# Altium footprint library BGA1600NP65A40X40_2700X2700X214B35N.PcbLib: 1 footprints
Each footprint in its own frame and in the unit in brackets; x right, y up, seen from the top. Pads: shape width x height; smd on the part's side, far side on the other; paste and mask are expansions set on the pad; w line width, h text height; cw(c..) or ccw(c..) is an arc to the next point about the centre after c.
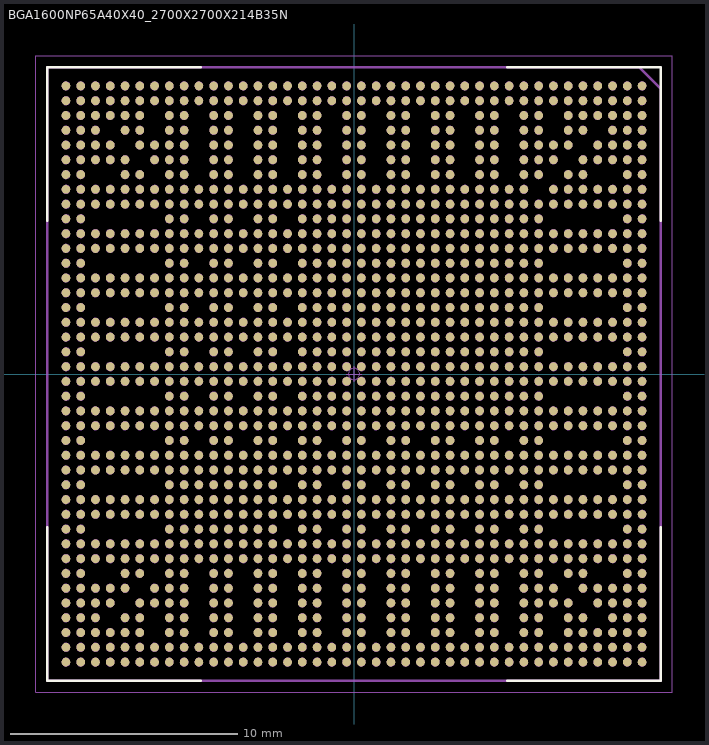
[diagram p0: the footprint, top view; thin cyan lines are the x and y axes]

## BGA1600NP65A40X40_2700X2700X214B35N [mm] "Ball Grid Array (BGA), 0.65 mm pitch, square; 1600 pin, 27.00 mm L X 27.00 mm W X 2.14 mm H Body"
height 2.14
pads (1372):
  round 0.385 smd paste-5 mask+0.025: A1(12.675,12.675) A2(12.025,12.675) A3(11.375,12.675) A4(10.725,12.675) A5(10.075,12.675) A6(9.425,12.675) A7(8.775,12.675) A8(8.125,12.675) A9(7.475,12.675) A10(6.825,12.675) A11(6.175,12.675) A12(5.525,12.675) A13(4.875,12.675) A14(4.225,12.675) A15(3.575,12.675) A16(2.925,12.675) A17(2.275,12.675) A18(1.625,12.675) A19(0.975,12.675) A20(0.325,12.675) A21(-0.325,12.675) A22(-0.975,12.675) A23(-1.625,12.675) A24(-2.275,12.675) A25(-2.925,12.675) A26(-3.575,12.675) A27(-4.225,12.675) A28(-4.875,12.675) A29(-5.525,12.675) A30(-6.175,12.675) A31(-6.825,12.675) A32(-7.475,12.675) A33(-8.125,12.675) A34(-8.775,12.675) A35(-9.425,12.675) A36(-10.075,12.675) A37(-10.725,12.675) A38(-11.375,12.675) A39(-12.025,12.675) A40(-12.675,12.675) AA1(12.675,-0.325) AA2(12.025,-0.325) AA3(11.375,-0.325) AA4(10.725,-0.325) AA5(10.075,-0.325) AA6(9.425,-0.325) AA7(8.775,-0.325) AA8(8.125,-0.325) AA9(7.475,-0.325) AA10(6.825,-0.325) AA11(6.175,-0.325) AA12(5.525,-0.325) AA13(4.875,-0.325) AA14(4.225,-0.325) AA15(3.575,-0.325) AA16(2.925,-0.325) AA17(2.275,-0.325) AA18(1.625,-0.325) AA19(0.975,-0.325) AA20(0.325,-0.325) AA21(-0.325,-0.325) AA22(-0.975,-0.325) AA23(-1.625,-0.325) AA24(-2.275,-0.325) AA25(-2.925,-0.325) AA26(-3.575,-0.325) AA27(-4.225,-0.325) AA28(-4.875,-0.325) AA29(-5.525,-0.325) AA30(-6.175,-0.325) AA31(-6.825,-0.325) AA32(-7.475,-0.325) AA33(-8.125,-0.325) AA34(-8.775,-0.325) AA35(-9.425,-0.325) AA36(-10.075,-0.325) AA37(-10.725,-0.325) AA38(-11.375,-0.325) AA39(-12.025,-0.325) AA40(-12.675,-0.325) AB1(12.675,-0.975) AB2(12.025,-0.975) AB8(8.125,-0.975) AB9(7.475,-0.975) AB10(6.825,-0.975) AB11(6.175,-0.975) AB12(5.525,-0.975) AB13(4.875,-0.975) AB14(4.225,-0.975) AB15(3.575,-0.975) AB16(2.925,-0.975) AB17(2.275,-0.975) AB18(1.625,-0.975) AB19(0.975,-0.975) AB20(0.325,-0.975) AB21(-0.325,-0.975) AB22(-0.975,-0.975) AB23(-1.625,-0.975) AB24(-2.275,-0.975) AB26(-3.575,-0.975) AB27(-4.225,-0.975) AB29(-5.525,-0.975) AB30(-6.175,-0.975) AB32(-7.475,-0.975) AB33(-8.125,-0.975) AB39(-12.025,-0.975) AB40(-12.675,-0.975) AC1(12.675,-1.625) AC2(12.025,-1.625) AC3(11.375,-1.625) AC4(10.725,-1.625) AC5(10.075,-1.625) AC6(9.425,-1.625) AC7(8.775,-1.625) AC8(8.125,-1.625) AC9(7.475,-1.625) AC10(6.825,-1.625) AC11(6.175,-1.625) AC12(5.525,-1.625) AC13(4.875,-1.625) AC14(4.225,-1.625) AC15(3.575,-1.625) AC16(2.925,-1.625) AC17(2.275,-1.625) AC18(1.625,-1.625) AC19(0.975,-1.625) AC20(0.325,-1.625) AC21(-0.325,-1.625) AC22(-0.975,-1.625) AC23(-1.625,-1.625) AC24(-2.275,-1.625) AC25(-2.925,-1.625) AC26(-3.575,-1.625) AC27(-4.225,-1.625) AC28(-4.875,-1.625) AC29(-5.525,-1.625) AC30(-6.175,-1.625) AC31(-6.825,-1.625) AC32(-7.475,-1.625) AC33(-8.125,-1.625) AC34(-8.775,-1.625) AC35(-9.425,-1.625) AC36(-10.075,-1.625) AC37(-10.725,-1.625) AC38(-11.375,-1.625) AC39(-12.025,-1.625) AC40(-12.675,-1.625) AD1(12.675,-2.275) AD2(12.025,-2.275) AD3(11.375,-2.275) AD4(10.725,-2.275) AD5(10.075,-2.275) AD6(9.425,-2.275) AD7(8.775,-2.275) AD8(8.125,-2.275) AD9(7.475,-2.275) AD10(6.825,-2.275) AD11(6.175,-2.275) AD12(5.525,-2.275) AD13(4.875,-2.275) AD14(4.225,-2.275) AD15(3.575,-2.275) AD16(2.925,-2.275) AD17(2.275,-2.275) AD18(1.625,-2.275) AD19(0.975,-2.275) AD20(0.325,-2.275) AD21(-0.325,-2.275) AD22(-0.975,-2.275) AD23(-1.625,-2.275) AD24(-2.275,-2.275) AD25(-2.925,-2.275) AD26(-3.575,-2.275) AD27(-4.225,-2.275) AD28(-4.875,-2.275) AD29(-5.525,-2.275) AD30(-6.175,-2.275) AD31(-6.825,-2.275) AD32(-7.475,-2.275) AD33(-8.125,-2.275) AD34(-8.775,-2.275) AD35(-9.425,-2.275) AD36(-10.075,-2.275) AD37(-10.725,-2.275) AD38(-11.375,-2.275) AD39(-12.025,-2.275) AD40(-12.675,-2.275) AE1(12.675,-2.925) AE2(12.025,-2.925) AE8(8.125,-2.925) AE9(7.475,-2.925) AE11(6.175,-2.925) AE12(5.525,-2.925) AE14(4.225,-2.925) AE15(3.575,-2.925) AE17(2.275,-2.925) AE18(1.625,-2.925) AE20(0.325,-2.925) AE21(-0.325,-2.925) AE23(-1.625,-2.925) AE24(-2.275,-2.925) AE26(-3.575,-2.925) AE27(-4.225,-2.925) AE29(-5.525,-2.925) AE30(-6.175,-2.925) AE32(-7.475,-2.925) AE33(-8.125,-2.925) AE39(-12.025,-2.925) AE40(-12.675,-2.925) AF1(12.675,-3.575) AF2(12.025,-3.575) AF3(11.375,-3.575) AF4(10.725,-3.575) AF5(10.075,-3.575) AF6(9.425,-3.575) AF7(8.775,-3.575) AF8(8.125,-3.575) AF9(7.475,-3.575) AF10(6.825,-3.575) AF11(6.175,-3.575) AF12(5.525,-3.575) AF13(4.875,-3.575) AF14(4.225,-3.575) AF15(3.575,-3.575) AF16(2.925,-3.575) AF17(2.275,-3.575) AF18(1.625,-3.575) AF19(0.975,-3.575) AF20(0.325,-3.575) AF21(-0.325,-3.575) AF22(-0.975,-3.575) AF23(-1.625,-3.575) AF24(-2.275,-3.575) AF25(-2.925,-3.575) AF26(-3.575,-3.575) AF27(-4.225,-3.575) AF28(-4.875,-3.575) AF29(-5.525,-3.575) AF30(-6.175,-3.575) AF31(-6.825,-3.575) AF32(-7.475,-3.575) AF33(-8.125,-3.575) AF34(-8.775,-3.575) AF35(-9.425,-3.575) AF36(-10.075,-3.575) AF37(-10.725,-3.575) AF38(-11.375,-3.575) AF39(-12.025,-3.575) AF40(-12.675,-3.575) AG1(12.675,-4.225) AG2(12.025,-4.225) AG3(11.375,-4.225) AG4(10.725,-4.225) AG5(10.075,-4.225) AG6(9.425,-4.225) AG7(8.775,-4.225) AG8(8.125,-4.225) AG9(7.475,-4.225) AG10(6.825,-4.225) AG11(6.175,-4.225) AG12(5.525,-4.225) AG13(4.875,-4.225) AG14(4.225,-4.225) AG15(3.575,-4.225) AG16(2.925,-4.225) AG17(2.275,-4.225) AG18(1.625,-4.225) AG19(0.975,-4.225) AG20(0.325,-4.225) AG21(-0.325,-4.225) AG22(-0.975,-4.225) AG23(-1.625,-4.225) AG24(-2.275,-4.225) AG25(-2.925,-4.225) AG26(-3.575,-4.225) AG27(-4.225,-4.225) AG28(-4.875,-4.225) AG29(-5.525,-4.225) AG30(-6.175,-4.225) AG31(-6.825,-4.225) AG32(-7.475,-4.225) AG33(-8.125,-4.225) AG34(-8.775,-4.225) AG35(-9.425,-4.225) AG36(-10.075,-4.225) AG37(-10.725,-4.225) AG38(-11.375,-4.225) AG39(-12.025,-4.225) AG40(-12.675,-4.225) AH1(12.675,-4.875) AH2(12.025,-4.875) AH8(8.125,-4.875) AH9(7.475,-4.875) AH11(6.175,-4.875) AH12(5.525,-4.875) AH14(4.225,-4.875) AH15(3.575,-4.875) AH17(2.275,-4.875) AH18(1.625,-4.875) AH20(0.325,-4.875) AH21(-0.325,-4.875) AH23(-1.625,-4.875) AH24(-2.275,-4.875) AH26(-3.575,-4.875) AH27(-4.225,-4.875) AH28(-4.875,-4.875) AH29(-5.525,-4.875) AH30(-6.175,-4.875) AH31(-6.825,-4.875) AH32(-7.475,-4.875) AH33(-8.125,-4.875) AH39(-12.025,-4.875) AH40(-12.675,-4.875) AJ1(12.675,-5.525) AJ2(12.025,-5.525) AJ3(11.375,-5.525) AJ4(10.725,-5.525) AJ5(10.075,-5.525) AJ6(9.425,-5.525) AJ7(8.775,-5.525) AJ8(8.125,-5.525) AJ9(7.475,-5.525) AJ10(6.825,-5.525) AJ11(6.175,-5.525) AJ12(5.525,-5.525) AJ13(4.875,-5.525) AJ14(4.225,-5.525) AJ15(3.575,-5.525) AJ16(2.925,-5.525) AJ17(2.275,-5.525) AJ18(1.625,-5.525) AJ19(0.975,-5.525) AJ20(0.325,-5.525) AJ21(-0.325,-5.525) AJ22(-0.975,-5.525) AJ23(-1.625,-5.525) AJ24(-2.275,-5.525) AJ25(-2.925,-5.525) AJ26(-3.575,-5.525) AJ27(-4.225,-5.525) AJ28(-4.875,-5.525) AJ29(-5.525,-5.525) AJ30(-6.175,-5.525) AJ31(-6.825,-5.525) AJ32(-7.475,-5.525) AJ33(-8.125,-5.525) AJ34(-8.775,-5.525) AJ35(-9.425,-5.525) AJ36(-10.075,-5.525) AJ37(-10.725,-5.525) AJ38(-11.375,-5.525) AJ39(-12.025,-5.525) AJ40(-12.675,-5.525) AK1(12.675,-6.175) AK2(12.025,-6.175) AK3(11.375,-6.175) AK4(10.725,-6.175) AK5(10.075,-6.175) AK6(9.425,-6.175) AK7(8.775,-6.175) AK8(8.125,-6.175) AK9(7.475,-6.175) AK10(6.825,-6.175) AK11(6.175,-6.175) AK12(5.525,-6.175) AK13(4.875,-6.175) AK14(4.225,-6.175) AK15(3.575,-6.175) AK16(2.925,-6.175) AK17(2.275,-6.175) AK18(1.625,-6.175) AK19(0.975,-6.175) AK20(0.325,-6.175) AK21(-0.325,-6.175) AK22(-0.975,-6.175) AK23(-1.625,-6.175) AK24(-2.275,-6.175) AK25(-2.925,-6.175) AK26(-3.575,-6.175) AK27(-4.225,-6.175) AK28(-4.875,-6.175) AK29(-5.525,-6.175) AK30(-6.175,-6.175) AK31(-6.825,-6.175) AK32(-7.475,-6.175) AK33(-8.125,-6.175) AK34(-8.775,-6.175) AK35(-9.425,-6.175) AK36(-10.075,-6.175) AK37(-10.725,-6.175) AK38(-11.375,-6.175) AK39(-12.025,-6.175) AK40(-12.675,-6.175) AL1(12.675,-6.825) AL2(12.025,-6.825) AL8(8.125,-6.825) AL9(7.475,-6.825) AL11(6.175,-6.825) AL12(5.525,-6.825) AL14(4.225,-6.825) AL15(3.575,-6.825) AL17(2.275,-6.825) AL18(1.625,-6.825) AL20(0.325,-6.825) AL21(-0.325,-6.825) AL23(-1.625,-6.825) AL24(-2.275,-6.825) AL26(-3.575,-6.825) AL27(-4.225,-6.825) AL28(-4.875,-6.825) AL29(-5.525,-6.825) AL30(-6.175,-6.825) AL31(-6.825,-6.825) AL32(-7.475,-6.825) AL33(-8.125,-6.825) AL39(-12.025,-6.825) AL40(-12.675,-6.825) AM1(12.675,-7.475) AM2(12.025,-7.475) AM3(11.375,-7.475) AM4(10.725,-7.475) AM5(10.075,-7.475) AM6(9.425,-7.475) AM7(8.775,-7.475) AM8(8.125,-7.475) AM9(7.475,-7.475) AM10(6.825,-7.475) AM11(6.175,-7.475) AM12(5.525,-7.475) AM13(4.875,-7.475) AM14(4.225,-7.475) AM15(3.575,-7.475) AM16(2.925,-7.475) AM17(2.275,-7.475) AM18(1.625,-7.475) AM19(0.975,-7.475) AM20(0.325,-7.475) AM21(-0.325,-7.475) AM22(-0.975,-7.475) AM23(-1.625,-7.475) AM24(-2.275,-7.475) AM25(-2.925,-7.475) AM26(-3.575,-7.475) AM27(-4.225,-7.475) AM28(-4.875,-7.475) AM29(-5.525,-7.475) AM30(-6.175,-7.475) AM31(-6.825,-7.475) AM32(-7.475,-7.475) AM33(-8.125,-7.475) AM34(-8.775,-7.475) AM35(-9.425,-7.475) AM36(-10.075,-7.475) AM37(-10.725,-7.475) AM38(-11.375,-7.475) AM39(-12.025,-7.475) AM40(-12.675,-7.475) AN1(12.675,-8.125) AN2(12.025,-8.125) AN3(11.375,-8.125) AN4(10.725,-8.125) AN5(10.075,-8.125) AN6(9.425,-8.125) AN7(8.775,-8.125) AN8(8.125,-8.125) AN9(7.475,-8.125) AN10(6.825,-8.125) AN11(6.175,-8.125) AN12(5.525,-8.125) AN13(4.875,-8.125) AN14(4.225,-8.125) AN15(3.575,-8.125) AN16(2.925,-8.125) AN17(2.275,-8.125) AN18(1.625,-8.125) AN19(0.975,-8.125) AN20(0.325,-8.125) AN21(-0.325,-8.125) AN22(-0.975,-8.125) AN23(-1.625,-8.125) AN24(-2.275,-8.125) AN25(-2.925,-8.125) AN26(-3.575,-8.125) AN27(-4.225,-8.125) AN28(-4.875,-8.125) AN29(-5.525,-8.125) AN30(-6.175,-8.125) AN31(-6.825,-8.125) AN32(-7.475,-8.125) AN33(-8.125,-8.125) AN34(-8.775,-8.125) AN35(-9.425,-8.125) AN36(-10.075,-8.125) AN37(-10.725,-8.125) AN38(-11.375,-8.125) AN39(-12.025,-8.125) AN40(-12.675,-8.125) AP1(12.675,-8.775) AP2(12.025,-8.775) AP5(10.075,-8.775) AP6(9.425,-8.775) AP8(8.125,-8.775) AP9(7.475,-8.775) AP11(6.175,-8.775) AP12(5.525,-8.775) AP14(4.225,-8.775) AP15(3.575,-8.775) AP17(2.275,-8.775) AP18(1.625,-8.775) AP20(0.325,-8.775) AP21(-0.325,-8.775) AP23(-1.625,-8.775) AP24(-2.275,-8.775) AP26(-3.575,-8.775) AP27(-4.225,-8.775) AP29(-5.525,-8.775) AP30(-6.175,-8.775) AP32(-7.475,-8.775) AP33(-8.125,-8.775) AP35(-9.425,-8.775) AP36(-10.075,-8.775) AP39(-12.025,-8.775) AP40(-12.675,-8.775) AR1(12.675,-9.425) AR2(12.025,-9.425) AR3(11.375,-9.425) AR4(10.725,-9.425) AR5(10.075,-9.425) AR7(8.775,-9.425) AR8(8.125,-9.425) AR9(7.475,-9.425) AR11(6.175,-9.425) AR12(5.525,-9.425) AR14(4.225,-9.425) AR15(3.575,-9.425) AR17(2.275,-9.425) AR18(1.625,-9.425) AR20(0.325,-9.425) AR21(-0.325,-9.425) AR23(-1.625,-9.425) AR24(-2.275,-9.425) AR26(-3.575,-9.425) AR27(-4.225,-9.425) AR29(-5.525,-9.425) AR30(-6.175,-9.425) AR32(-7.475,-9.425) AR33(-8.125,-9.425) AR34(-8.775,-9.425) AR36(-10.075,-9.425) AR37(-10.725,-9.425) AR38(-11.375,-9.425) AR39(-12.025,-9.425) AR40(-12.675,-9.425) AT1(12.675,-10.075) AT2(12.025,-10.075) AT3(11.375,-10.075) AT4(10.725,-10.075) AT6(9.425,-10.075) AT7(8.775,-10.075) AT8(8.125,-10.075) AT9(7.475,-10.075) AT11(6.175,-10.075) AT12(5.525,-10.075) AT14(4.225,-10.075) AT15(3.575,-10.075) AT17(2.275,-10.075) AT18(1.625,-10.075) AT20(0.325,-10.075) AT21(-0.325,-10.075) AT23(-1.625,-10.075) AT24(-2.275,-10.075) AT26(-3.575,-10.075) AT27(-4.225,-10.075) AT29(-5.525,-10.075) AT30(-6.175,-10.075) AT32(-7.475,-10.075) AT33(-8.125,-10.075) AT34(-8.775,-10.075) AT35(-9.425,-10.075) AT37(-10.725,-10.075) AT38(-11.375,-10.075) AT39(-12.025,-10.075) AT40(-12.675,-10.075) AU1(12.675,-10.725) AU2(12.025,-10.725) AU3(11.375,-10.725) AU5(10.075,-10.725) AU6(9.425,-10.725) AU8(8.125,-10.725) AU9(7.475,-10.725) AU11(6.175,-10.725) AU12(5.525,-10.725) AU14(4.225,-10.725) AU15(3.575,-10.725) AU17(2.275,-10.725) AU18(1.625,-10.725) AU20(0.325,-10.725) AU21(-0.325,-10.725) AU23(-1.625,-10.725) AU24(-2.275,-10.725) AU26(-3.575,-10.725) AU27(-4.225,-10.725) AU29(-5.525,-10.725) AU30(-6.175,-10.725) AU32(-7.475,-10.725) AU33(-8.125,-10.725) AU35(-9.425,-10.725) AU36(-10.075,-10.725) AU38(-11.375,-10.725) AU39(-12.025,-10.725) AU40(-12.675,-10.725) AV1(12.675,-11.375) AV2(12.025,-11.375) AV3(11.375,-11.375) AV4(10.725,-11.375) AV5(10.075,-11.375) AV6(9.425,-11.375) AV8(8.125,-11.375) AV9(7.475,-11.375) AV11(6.175,-11.375) AV12(5.525,-11.375) AV14(4.225,-11.375) AV15(3.575,-11.375) AV17(2.275,-11.375) AV18(1.625,-11.375) AV20(0.325,-11.375) AV21(-0.325,-11.375) AV23(-1.625,-11.375) AV24(-2.275,-11.375) AV26(-3.575,-11.375) AV27(-4.225,-11.375) AV29(-5.525,-11.375) AV30(-6.175,-11.375) AV32(-7.475,-11.375) AV33(-8.125,-11.375) AV35(-9.425,-11.375) AV36(-10.075,-11.375) AV37(-10.725,-11.375) AV38(-11.375,-11.375) AV39(-12.025,-11.375) AV40(-12.675,-11.375) AW1(12.675,-12.025) AW2(12.025,-12.025) AW3(11.375,-12.025) AW4(10.725,-12.025) AW5(10.075,-12.025) AW6(9.425,-12.025) AW7(8.775,-12.025) AW8(8.125,-12.025) AW9(7.475,-12.025) AW10(6.825,-12.025) AW11(6.175,-12.025) AW12(5.525,-12.025) AW13(4.875,-12.025) AW14(4.225,-12.025) AW15(3.575,-12.025) AW16(2.925,-12.025) AW17(2.275,-12.025) AW18(1.625,-12.025) AW19(0.975,-12.025) AW20(0.325,-12.025) AW21(-0.325,-12.025) AW22(-0.975,-12.025) AW23(-1.625,-12.025) AW24(-2.275,-12.025) AW25(-2.925,-12.025) AW26(-3.575,-12.025) AW27(-4.225,-12.025) AW28(-4.875,-12.025) AW29(-5.525,-12.025) AW30(-6.175,-12.025) AW31(-6.825,-12.025) AW32(-7.475,-12.025) AW33(-8.125,-12.025) AW34(-8.775,-12.025) AW35(-9.425,-12.025) AW36(-10.075,-12.025) AW37(-10.725,-12.025) AW38(-11.375,-12.025) AW39(-12.025,-12.025) AW40(-12.675,-12.025) AY1(12.675,-12.675) AY2(12.025,-12.675) AY3(11.375,-12.675) AY4(10.725,-12.675) AY5(10.075,-12.675) AY6(9.425,-12.675) AY7(8.775,-12.675) AY8(8.125,-12.675) AY9(7.475,-12.675) AY10(6.825,-12.675) AY11(6.175,-12.675) AY12(5.525,-12.675) AY13(4.875,-12.675) AY14(4.225,-12.675) AY15(3.575,-12.675) AY16(2.925,-12.675) AY17(2.275,-12.675) AY18(1.625,-12.675) AY19(0.975,-12.675) AY20(0.325,-12.675) AY21(-0.325,-12.675) AY22(-0.975,-12.675) AY23(-1.625,-12.675) AY24(-2.275,-12.675) AY25(-2.925,-12.675) AY26(-3.575,-12.675) AY27(-4.225,-12.675) AY28(-4.875,-12.675) AY29(-5.525,-12.675) AY30(-6.175,-12.675) AY31(-6.825,-12.675) AY32(-7.475,-12.675) AY33(-8.125,-12.675) AY34(-8.775,-12.675) AY35(-9.425,-12.675) AY36(-10.075,-12.675) AY37(-10.725,-12.675) AY38(-11.375,-12.675) AY39(-12.025,-12.675) AY40(-12.675,-12.675) B1(12.675,12.025) B2(12.025,12.025) B3(11.375,12.025) B4(10.725,12.025) B5(10.075,12.025) B6(9.425,12.025) B7(8.775,12.025) B8(8.125,12.025) B9(7.475,12.025) B10(6.825,12.025) B11(6.175,12.025) B12(5.525,12.025) B13(4.875,12.025) B14(4.225,12.025) B15(3.575,12.025) B16(2.925,12.025) B17(2.275,12.025) B18(1.625,12.025) B19(0.975,12.025) B20(0.325,12.025) B21(-0.325,12.025) B22(-0.975,12.025) B23(-1.625,12.025) B24(-2.275,12.025) B25(-2.925,12.025) B26(-3.575,12.025) B27(-4.225,12.025) B28(-4.875,12.025) B29(-5.525,12.025) B30(-6.175,12.025) B31(-6.825,12.025) B32(-7.475,12.025) B33(-8.125,12.025) B34(-8.775,12.025) B35(-9.425,12.025) B36(-10.075,12.025) B37(-10.725,12.025) B38(-11.375,12.025) B39(-12.025,12.025) B40(-12.675,12.025) C1(12.675,11.375) C2(12.025,11.375) C3(11.375,11.375) C4(10.725,11.375) C5(10.075,11.375) C6(9.425,11.375) C8(8.125,11.375) C9(7.475,11.375) C11(6.175,11.375) C12(5.525,11.375) C14(4.225,11.375) C15(3.575,11.375) C17(2.275,11.375) C18(1.625,11.375) C20(0.325,11.375) C21(-0.325,11.375) C23(-1.625,11.375) C24(-2.275,11.375) C26(-3.575,11.375) C27(-4.225,11.375) C29(-5.525,11.375) C30(-6.175,11.375) C32(-7.475,11.375) C33(-8.125,11.375) C35(-9.425,11.375) C36(-10.075,11.375) C37(-10.725,11.375) C38(-11.375,11.375) C39(-12.025,11.375) C40(-12.675,11.375) D1(12.675,10.725) D2(12.025,10.725) D3(11.375,10.725) D5(10.075,10.725) D6(9.425,10.725) D8(8.125,10.725) D9(7.475,10.725) D11(6.175,10.725) D12(5.525,10.725) D14(4.225,10.725) D15(3.575,10.725) D17(2.275,10.725) D18(1.625,10.725) D20(0.325,10.725) D21(-0.325,10.725) D23(-1.625,10.725) D24(-2.275,10.725) D26(-3.575,10.725) D27(-4.225,10.725) D29(-5.525,10.725) D30(-6.175,10.725) D32(-7.475,10.725) D33(-8.125,10.725) D35(-9.425,10.725) D36(-10.075,10.725) D38(-11.375,10.725) D39(-12.025,10.725) D40(-12.675,10.725) E1(12.675,10.075) E2(12.025,10.075) E3(11.375,10.075) E4(10.725,10.075) E6(9.425,10.075) E7(8.775,10.075) E8(8.125,10.075) E9(7.475,10.075) E11(6.175,10.075) E12(5.525,10.075) E14(4.225,10.075) E15(3.575,10.075) E17(2.275,10.075) E18(1.625,10.075) E20(0.325,10.075) E21(-0.325,10.075) E23(-1.625,10.075) E24(-2.275,10.075) E26(-3.575,10.075) E27(-4.225,10.075) E29(-5.525,10.075) E30(-6.175,10.075) E32(-7.475,10.075) E33(-8.125,10.075) E34(-8.775,10.075) E35(-9.425,10.075) E37(-10.725,10.075) E38(-11.375,10.075) E39(-12.025,10.075) E40(-12.675,10.075) F1(12.675,9.425) F2(12.025,9.425) F3(11.375,9.425) F4(10.725,9.425) F5(10.075,9.425) F7(8.775,9.425) F8(8.125,9.425) F9(7.475,9.425) F11(6.175,9.425) F12(5.525,9.425) F14(4.225,9.425) F15(3.575,9.425) F17(2.275,9.425) F18(1.625,9.425) F20(0.325,9.425) F21(-0.325,9.425) F23(-1.625,9.425) F24(-2.275,9.425) F26(-3.575,9.425) F27(-4.225,9.425) F29(-5.525,9.425) F30(-6.175,9.425) F32(-7.475,9.425) F33(-8.125,9.425) F34(-8.775,9.425) F36(-10.075,9.425) F37(-10.725,9.425) F38(-11.375,9.425) F39(-12.025,9.425) F40(-12.675,9.425) G1(12.675,8.775) G2(12.025,8.775) G5(10.075,8.775) G6(9.425,8.775) G8(8.125,8.775) G9(7.475,8.775) G11(6.175,8.775) G12(5.525,8.775) G14(4.225,8.775) G15(3.575,8.775) G17(2.275,8.775) G18(1.625,8.775) G20(0.325,8.775) G21(-0.325,8.775) G23(-1.625,8.775) G24(-2.275,8.775) G26(-3.575,8.775) G27(-4.225,8.775) G29(-5.525,8.775) G30(-6.175,8.775) G32(-7.475,8.775) G33(-8.125,8.775) G35(-9.425,8.775) G36(-10.075,8.775) G39(-12.025,8.775) G40(-12.675,8.775) H1(12.675,8.125) H2(12.025,8.125) H3(11.375,8.125) H4(10.725,8.125) H5(10.075,8.125) H6(9.425,8.125) H7(8.775,8.125) H9(7.475,8.125) H10(6.825,8.125) H11(6.175,8.125) H12(5.525,8.125) H13(4.875,8.125) H14(4.225,8.125) H15(3.575,8.125) H16(2.925,8.125) H17(2.275,8.125) H18(1.625,8.125) H19(0.975,8.125) H20(0.325,8.125) H21(-0.325,8.125) H22(-0.975,8.125) H23(-1.625,8.125) H24(-2.275,8.125) H25(-2.925,8.125) H26(-3.575,8.125) H27(-4.225,8.125) H28(-4.875,8.125) H29(-5.525,8.125) H30(-6.175,8.125) H31(-6.825,8.125) H32(-7.475,8.125) H33(-8.125,8.125) H34(-8.775,8.125) H35(-9.425,8.125) H36(-10.075,8.125) H37(-10.725,8.125) H38(-11.375,8.125) H39(-12.025,8.125) H40(-12.675,8.125) J1(12.675,7.475) J2(12.025,7.475) J3(11.375,7.475) J4(10.725,7.475) J5(10.075,7.475) J6(9.425,7.475) J7(8.775,7.475) J8(8.125,7.475) J9(7.475,7.475) J10(6.825,7.475) J11(6.175,7.475) J12(5.525,7.475) J13(4.875,7.475) J14(4.225,7.475) J15(3.575,7.475) J16(2.925,7.475) J17(2.275,7.475) J18(1.625,7.475) J19(0.975,7.475) J20(0.325,7.475) J21(-0.325,7.475) J22(-0.975,7.475) J23(-1.625,7.475) J24(-2.275,7.475) J25(-2.925,7.475) J26(-3.575,7.475) J27(-4.225,7.475) J28(-4.875,7.475) J29(-5.525,7.475) J30(-6.175,7.475) J31(-6.825,7.475) J32(-7.475,7.475) J33(-8.125,7.475) J34(-8.775,7.475) J35(-9.425,7.475) J36(-10.075,7.475) J37(-10.725,7.475) J38(-11.375,7.475) J39(-12.025,7.475) J40(-12.675,7.475) K1(12.675,6.825) K2(12.025,6.825) K8(8.125,6.825) K9(7.475,6.825) K10(6.825,6.825) K11(6.175,6.825) K12(5.525,6.825) K13(4.875,6.825) K14(4.225,6.825) K15(3.575,6.825) K16(2.925,6.825) K17(2.275,6.825) K18(1.625,6.825) K19(0.975,6.825) K20(0.325,6.825) K21(-0.325,6.825) K22(-0.975,6.825) K23(-1.625,6.825) K24(-2.275,6.825) K26(-3.575,6.825) K27(-4.225,6.825) K29(-5.525,6.825) K30(-6.175,6.825) K32(-7.475,6.825) K33(-8.125,6.825) K39(-12.025,6.825) K40(-12.675,6.825) L1(12.675,6.175) L2(12.025,6.175) L3(11.375,6.175) L4(10.725,6.175) L5(10.075,6.175) L6(9.425,6.175) L7(8.775,6.175) L8(8.125,6.175) L9(7.475,6.175) L10(6.825,6.175) L11(6.175,6.175) L12(5.525,6.175) L13(4.875,6.175) L14(4.225,6.175) L15(3.575,6.175) L16(2.925,6.175) L17(2.275,6.175) L18(1.625,6.175) L19(0.975,6.175) L20(0.325,6.175) L21(-0.325,6.175) L22(-0.975,6.175) L23(-1.625,6.175) L24(-2.275,6.175) L25(-2.925,6.175) L26(-3.575,6.175) L27(-4.225,6.175) L28(-4.875,6.175) L29(-5.525,6.175) L30(-6.175,6.175) L31(-6.825,6.175) L32(-7.475,6.175) L33(-8.125,6.175) L34(-8.775,6.175) L35(-9.425,6.175) L36(-10.075,6.175) L37(-10.725,6.175) L38(-11.375,6.175) L39(-12.025,6.175) L40(-12.675,6.175) M1(12.675,5.525) M2(12.025,5.525) M3(11.375,5.525) M4(10.725,5.525) M5(10.075,5.525) M6(9.425,5.525) M7(8.775,5.525) M8(8.125,5.525) M9(7.475,5.525) M10(6.825,5.525) M11(6.175,5.525) M12(5.525,5.525) M13(4.875,5.525) M14(4.225,5.525) M15(3.575,5.525) M16(2.925,5.525) M17(2.275,5.525) M18(1.625,5.525) M19(0.975,5.525) M20(0.325,5.525) M21(-0.325,5.525) M22(-0.975,5.525) M23(-1.625,5.525) M24(-2.275,5.525) M25(-2.925,5.525) M26(-3.575,5.525) M27(-4.225,5.525) M28(-4.875,5.525) M29(-5.525,5.525) M30(-6.175,5.525) M31(-6.825,5.525) M32(-7.475,5.525) M33(-8.125,5.525) M34(-8.775,5.525) M35(-9.425,5.525) M36(-10.075,5.525) M37(-10.725,5.525) M38(-11.375,5.525) M39(-12.025,5.525) M40(-12.675,5.525) N1(12.675,4.875) N2(12.025,4.875) N8(8.125,4.875) N9(7.475,4.875) N10(6.825,4.875) N11(6.175,4.875) N12(5.525,4.875) N13(4.875,4.875) N14(4.225,4.875) N15(3.575,4.875) N16(2.925,4.875) N17(2.275,4.875) N18(1.625,4.875) N19(0.975,4.875) N20(0.325,4.875) N21(-0.325,4.875) N22(-0.975,4.875) N23(-1.625,4.875) N24(-2.275,4.875) N26(-3.575,4.875) N27(-4.225,4.875) N29(-5.525,4.875) N30(-6.175,4.875) N32(-7.475,4.875) N33(-8.125,4.875) N39(-12.025,4.875) N40(-12.675,4.875) P1(12.675,4.225) P2(12.025,4.225) P3(11.375,4.225) P4(10.725,4.225) P5(10.075,4.225) P6(9.425,4.225) P7(8.775,4.225) P8(8.125,4.225) P9(7.475,4.225) P10(6.825,4.225) P11(6.175,4.225) P12(5.525,4.225) P13(4.875,4.225) P14(4.225,4.225) P15(3.575,4.225) P16(2.925,4.225) P17(2.275,4.225) P18(1.625,4.225) P19(0.975,4.225) P20(0.325,4.225) P21(-0.325,4.225) P22(-0.975,4.225) P23(-1.625,4.225) P24(-2.275,4.225) P25(-2.925,4.225) P26(-3.575,4.225) P27(-4.225,4.225) P28(-4.875,4.225) P29(-5.525,4.225) P30(-6.175,4.225) P31(-6.825,4.225) P32(-7.475,4.225) P33(-8.125,4.225) P34(-8.775,4.225) P35(-9.425,4.225) P36(-10.075,4.225) P37(-10.725,4.225) P38(-11.375,4.225) P39(-12.025,4.225) P40(-12.675,4.225) R1(12.675,3.575) R2(12.025,3.575) R3(11.375,3.575) R4(10.725,3.575) R5(10.075,3.575) R6(9.425,3.575) R7(8.775,3.575) R8(8.125,3.575) R9(7.475,3.575) R10(6.825,3.575) R11(6.175,3.575) R12(5.525,3.575) R13(4.875,3.575) R14(4.225,3.575) R15(3.575,3.575) R16(2.925,3.575) R17(2.275,3.575) R18(1.625,3.575) R19(0.975,3.575) R20(0.325,3.575) R21(-0.325,3.575) R22(-0.975,3.575) R23(-1.625,3.575) R24(-2.275,3.575) R25(-2.925,3.575) R26(-3.575,3.575) R27(-4.225,3.575) R28(-4.875,3.575) R29(-5.525,3.575) R30(-6.175,3.575) R31(-6.825,3.575) R32(-7.475,3.575) R33(-8.125,3.575) R34(-8.775,3.575) R35(-9.425,3.575) R36(-10.075,3.575) R37(-10.725,3.575) R38(-11.375,3.575) R39(-12.025,3.575) R40(-12.675,3.575) T1(12.675,2.925) T2(12.025,2.925) T8(8.125,2.925) T9(7.475,2.925) T10(6.825,2.925) T11(6.175,2.925) T12(5.525,2.925) T13(4.875,2.925) T14(4.225,2.925) T15(3.575,2.925) T16(2.925,2.925) T17(2.275,2.925) T18(1.625,2.925) T19(0.975,2.925) T20(0.325,2.925) T21(-0.325,2.925) T22(-0.975,2.925) T23(-1.625,2.925) T24(-2.275,2.925) T26(-3.575,2.925) T27(-4.225,2.925) T29(-5.525,2.925) T30(-6.175,2.925) T32(-7.475,2.925) T33(-8.125,2.925) T39(-12.025,2.925) T40(-12.675,2.925) U1(12.675,2.275) U2(12.025,2.275) U3(11.375,2.275) U4(10.725,2.275) U5(10.075,2.275) U6(9.425,2.275) U7(8.775,2.275) U8(8.125,2.275) U9(7.475,2.275) U10(6.825,2.275) U11(6.175,2.275) U12(5.525,2.275) U13(4.875,2.275) U14(4.225,2.275) U15(3.575,2.275) U16(2.925,2.275) U17(2.275,2.275) U18(1.625,2.275) U19(0.975,2.275) U20(0.325,2.275) U21(-0.325,2.275) U22(-0.975,2.275) U23(-1.625,2.275) U24(-2.275,2.275) U25(-2.925,2.275) U26(-3.575,2.275) U27(-4.225,2.275) U28(-4.875,2.275) U29(-5.525,2.275) U30(-6.175,2.275) U31(-6.825,2.275) U32(-7.475,2.275) U33(-8.125,2.275) U34(-8.775,2.275) U35(-9.425,2.275) U36(-10.075,2.275) U37(-10.725,2.275) U38(-11.375,2.275) U39(-12.025,2.275) U40(-12.675,2.275) V1(12.675,1.625) V2(12.025,1.625) V3(11.375,1.625) V4(10.725,1.625) V5(10.075,1.625) V6(9.425,1.625) V7(8.775,1.625) V8(8.125,1.625) V9(7.475,1.625) V10(6.825,1.625) V11(6.175,1.625) V12(5.525,1.625) V13(4.875,1.625) V14(4.225,1.625) V15(3.575,1.625) V16(2.925,1.625) V17(2.275,1.625) V18(1.625,1.625) V19(0.975,1.625) V20(0.325,1.625) V21(-0.325,1.625) V22(-0.975,1.625) V23(-1.625,1.625) V24(-2.275,1.625) V25(-2.925,1.625) V26(-3.575,1.625) V27(-4.225,1.625) V28(-4.875,1.625) V29(-5.525,1.625) V30(-6.175,1.625) V31(-6.825,1.625) V32(-7.475,1.625) V33(-8.125,1.625) V34(-8.775,1.625) V35(-9.425,1.625) V36(-10.075,1.625) V37(-10.725,1.625) V38(-11.375,1.625) V39(-12.025,1.625) V40(-12.675,1.625) W1(12.675,0.975) W2(12.025,0.975) W8(8.125,0.975) W9(7.475,0.975) W10(6.825,0.975) W11(6.175,0.975) W12(5.525,0.975) W13(4.875,0.975) W14(4.225,0.975) W15(3.575,0.975) W16(2.925,0.975) W17(2.275,0.975) W18(1.625,0.975) W19(0.975,0.975) W20(0.325,0.975) W21(-0.325,0.975) W22(-0.975,0.975) W23(-1.625,0.975) W24(-2.275,0.975) W26(-3.575,0.975) W27(-4.225,0.975) W29(-5.525,0.975) W30(-6.175,0.975) W32(-7.475,0.975) W33(-8.125,0.975) W39(-12.025,0.975) W40(-12.675,0.975) Y1(12.675,0.325) Y2(12.025,0.325) Y3(11.375,0.325) Y4(10.725,0.325) Y5(10.075,0.325) Y6(9.425,0.325) Y7(8.775,0.325) Y8(8.125,0.325) Y9(7.475,0.325) Y10(6.825,0.325) Y11(6.175,0.325) Y12(5.525,0.325) Y13(4.875,0.325) Y14(4.225,0.325) Y15(3.575,0.325) Y16(2.925,0.325) Y17(2.275,0.325) Y18(1.625,0.325) Y19(0.975,0.325) Y20(0.325,0.325) Y21(-0.325,0.325) Y22(-0.975,0.325) Y23(-1.625,0.325) Y24(-2.275,0.325) Y25(-2.925,0.325) Y26(-3.575,0.325) Y27(-4.225,0.325) Y28(-4.875,0.325) Y29(-5.525,0.325) Y30(-6.175,0.325) Y31(-6.825,0.325) Y32(-7.475,0.325) Y33(-8.125,0.325) Y34(-8.775,0.325) Y35(-9.425,0.325) Y36(-10.075,0.325) Y37(-10.725,0.325) Y38(-11.375,0.325) Y39(-12.025,0.325) Y40(-12.675,0.325)
Top Overlay:
  lines w0.12: -13.5,-6.75 -13.5,-13.5 -6.75,-13.5 ; -13.5,6.75 -13.5,13.5 -6.75,13.5 ; 6.75,-13.5 13.5,-13.5 13.5,-6.75 ; 6.75,13.5 13.5,13.5 13.5,6.75
Mechanical 3:
  lines w0.12: -13.5,-13.5 -13.5,13.5 12.535,13.5 13.5,12.535 13.5,-13.5 -13.5,-13.5
Mechanical 5:
  drawing of 1376 lines, arcs and shapes, not listed
Mechanical 7:
  circle w0.05: c0,0 r0.25
  lines w0.05: -0.35,0 0.35,0 ; 0,-0.35 0,0.35 ; -14,-14 -14,14 14,14 14,-14 -14,-14
Mechanical 9:
  text "'.Designator'" at -5.944,-0.271 h1.02
3D body "BGA1600NP65A40X40_2700X2700X214B35.STEP": height 2.14, standoff 0, extent -13.5,-13.5 13.5,13.5
3D body: height 0.1, standoff 0, extent -14,-14 14,14